# EAGLE library part HD-BQ-A53DRD (library LED displeje)
LED displej 13,2 mm 4 mist
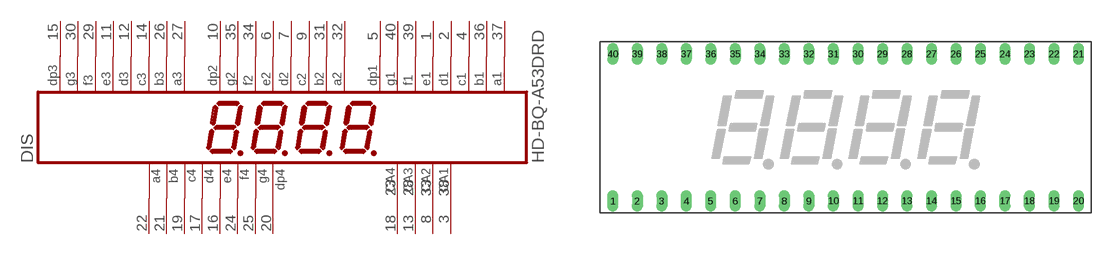
[diagram p16: symbol with the pads of HD-BQ-A53; footprint HD-BQ-A53]

Designator prefix DIS

## HD-BQ-A53DRD  [HD-BQ-A53]
1  E1  pas
2  D1  pas
3  CA1  pas
4  C1  pas
5  DP1  pas
6  E2  pas
7  D2  pas
8  CA2  pas
9  C2  pas
10  DP2  pas
11  E3  pas
12  D3  pas
13  CA3  pas
14  C3  pas
15  DP3  pas
16  E4  pas
17  D4  pas
18  CA4  pas
19  C4  pas
20  DP4  pas
21  B4  pas
22  A4  pas
23  CA4  pas
24  F4  pas
25  G4  pas
26  B3  pas
27  A3  pas
28  CA3  pas
29  F3  pas
30  G3  pas
31  B2  pas
32  A2  pas
33  CA2  pas
34  F2  pas
35  G2  pas
36  B1  pas
37  A1  pas
38  CA1  pas
39  F1  pas
40  G1  pas

## Footprint HD-BQ-A53 (pad centres in mm)
LED displej 13,2 mm 4 mist
drill 0.61 long: 1 -24.13,-7.62; 2 -21.59,-7.62; 3 -19.05,-7.62; 4 -16.51,-7.62; 5 -13.97,-7.62; 6 -11.43,-7.62; 7 -8.89,-7.62; 8 -6.35,-7.62; 9 -3.81,-7.62; 10 -1.27,-7.62; 11 1.27,-7.62; 12 3.81,-7.62; 13 6.35,-7.62; 14 8.89,-7.62; 15 11.43,-7.62; 16 13.97,-7.62; 17 16.51,-7.62; 18 19.05,-7.62; 19 21.59,-7.62; 20 24.13,-7.62; 21 24.13,7.62; 22 21.59,7.62; 23 19.05,7.62; 24 16.51,7.62; 25 13.97,7.62; 26 11.43,7.62; 27 8.89,7.62; 28 6.35,7.62; 29 3.81,7.62; 30 1.27,7.62; 31 -1.27,7.62; 32 -3.81,7.62; 33 -6.35,7.62; 34 -8.89,7.62; 35 -11.43,7.62; 36 -13.97,7.62; 37 -16.51,7.62; 38 -19.05,7.62; 39 -21.59,7.62; 40 -24.13,7.62